# Altium footprint library WB_RCL.PcbLib: 19 footprints (part 2 of 2)
Each footprint in its own frame and in the unit in brackets; x right, y up, seen from the top. Pads: shape width x height; smd on the part's side, far side on the other; paste and mask are expansions set on the pad; w line width, h text height; cw(c..) or ccw(c..) is an arc to the next point about the centre after c.
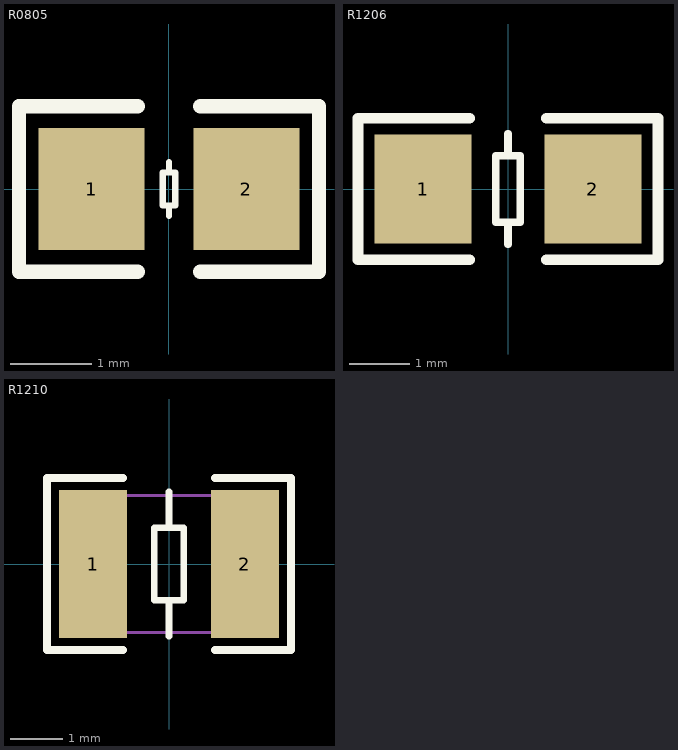
[diagram p1: the footprints below, top view; thin cyan lines are the x and y axes]

## R0805 [mm]
pads (2):
  rect 1.3x1.5 smd: 1(-0.95,0) 2(0.95,0)
Top Overlay:
  lines w0.076: 0,-0.33 0,-0.203 ; 0,0.203 0,0.33 ; -0.076,-0.203 -0.076,0 -0.076,0.203 0.076,0.203 0.076,0 0.076,-0.203 -0.076,-0.203
  lines w0.178: -0.381,-1.019 -1.841,-1.019 -1.841,1.019 -0.381,1.019 ; 0.381,-1.019 1.842,-1.019 1.842,1.019 0.381,1.019

## R1206 [mm]
pads (2):
  rect 1.6x1.8 smd: 1(-1.4,0) 2(1.4,0)
Top Overlay:
  lines w0.127: 0,-0.914 0,-0.55 ; 0,0.55 0,0.914 ; -0.2,-0.55 -0.2,0.55 0.2,0.55 0.2,-0.55 -0.2,-0.55
  lines w0.178: -0.635,-1.168 -2.476,-1.168 -2.476,1.168 -0.635,1.168 ; 0.635,-1.168 2.476,-1.168 2.476,1.168 0.635,1.168
3D body "C 1206.STEP": height 1.21, standoff -0.01, extent -1.6,-0.81 1.6,0.81

## R1210 [mm]
pads (2):
  rect 1.283x2.808 smd paste-100 mask+0.051: 1(-1.441,0) 2(1.441,0)
Top Overlay:
  lines w0.127: 0,-1.372 0,-0.686 ; 0,1.372 0,0.686 ; 0,0.686 0.279,0.686 0.279,-0.686 -0.279,-0.686 -0.279,0.686 0,0.686
  lines w0.152: -0.876,-1.633 -2.311,-1.633 -2.311,1.633 -0.876,1.633 ; 0.876,-1.633 2.311,-1.633 2.311,1.633 0.876,1.633
Top Paste:
  region: -0.8,-1.304 -0.8,-0.577 -0.9,-0.477 -1.136,-0.477 -1.236,-0.377 -1.236,0.377 -1.136,0.477 -0.9,0.477 -0.8,0.577 -0.8,1.304 -0.9,1.404 -1.983,1.404 -2.083,1.304 -2.083,-1.304 -1.983,-1.404 -0.9,-1.404
  region: 0.8,-1.304 0.8,-0.577 0.9,-0.477 1.136,-0.477 1.236,-0.377 1.236,0.377 1.136,0.477 0.9,0.477 0.8,0.577 0.8,1.304 0.9,1.404 1.983,1.404 2.083,1.304 2.083,-1.304 1.983,-1.404 0.9,-1.404
Mechanical 15:
  region: 1.55,-1.3 1.55,1.3 1.05,1.3 1.05,-1.3
  region: -1.55,-1.3 -1.55,1.3 -1.05,1.3 -1.05,-1.3
  region: -1.49,-1.3 -1.49,-1.275 -1.525,-1.24 -1.575,-1.24 -1.61,-1.275 -1.61,-1.3 -1.61,-1.325 -1.575,-1.36 -1.525,-1.36 -1.49,-1.325 -1.49,-1.3
  lines w0.051: -1.55,-1.3 1.55,-1.3 1.55,1.3 -1.55,1.3 -1.55,-1.3